# EAGLE library part LEVEL_SHIFTER (library LightSaber)
Check availability <https://pricing.snapeda.com/parts/TXS0102DCTR/Texas%20Instruments/view-part?ref=eda> TXS0102DCTR
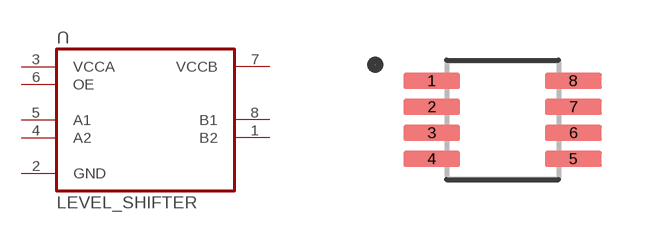
[diagram p4: symbol with the pads of LEVEL_SHIFTER; footprint LEVEL_SHIFTER]

Designator prefix U

## LEVEL_SHIFTER (AVAILABILITY: In Stock; CHECK_PRICES: https://www.snapeda.com/parts/TXS0102DCTR/Texas+Instruments/view-part/?ref=eda; DESCRIPTION: 2-Bit Bidirectional Voltage-Level Shifter for Open-Drain and Push-Pull Application; MF: Texas Instruments; MP: TXS0102DCTR; PACKAGE: SSOP-8 Texas Instruments; PRICE: None; SNAPEDA_LINK: https://www.snapeda.com/parts/TXS0102DCTR/Texas+Instruments/view-part/?ref=snap)  [LEVEL_SHIFTER]
1  B2
2  GND  pwr
3  VCCA  pwr
4  A2
5  A1
6  OE  in
7  VCCB  pwr
8  B1

## Footprint LEVEL_SHIFTER (pad centres in mm)
smd 1.42 x 0.4: 1 -1.77,0.975; 2 -1.77,0.325; 3 -1.77,-0.325; 4 -1.77,-0.975; 5 1.77,-0.975; 6 1.77,-0.325; 7 1.77,0.325; 8 1.77,0.975